# EAGLE library part ADCMP603 (library yapo)
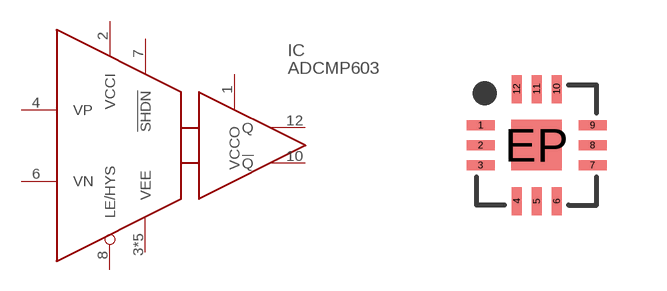
[diagram p72: symbol with the pads of QFN12-3X3; footprint QFN12-3X3]

Designator prefix IC

## ADCMP603  [QFN12-3X3]
1  VCCO
2  VCCI
3  VEE
4  VP
5  VEE
6  VN
7  !SHDN!
8  LE/HYS
9  VEE
10  !Q!
11  VEE
12  Q
EP  VEE

## Footprint QFN12-3X3 (pad centres in mm)
smd 0.7 x 0.25: 1 -1.4,0.5; 2 -1.4,0; 3 -1.4,-0.5; 7 1.4,-0.5; 8 1.4,0; 9 1.4,0.5
smd 0.25 x 0.7: 4 -0.5,-1.4; 5 0,-1.4; 6 0.5,-1.4; 10 0.5,1.4; 11 0,1.4; 12 -0.5,1.4
smd 1.27 x 1.27: EP 0,0